# Altium schematic symbol library Schlib1.SchLib: 23 symbols
Pins are listed as number, name and electrical type; pins without a type are passive.

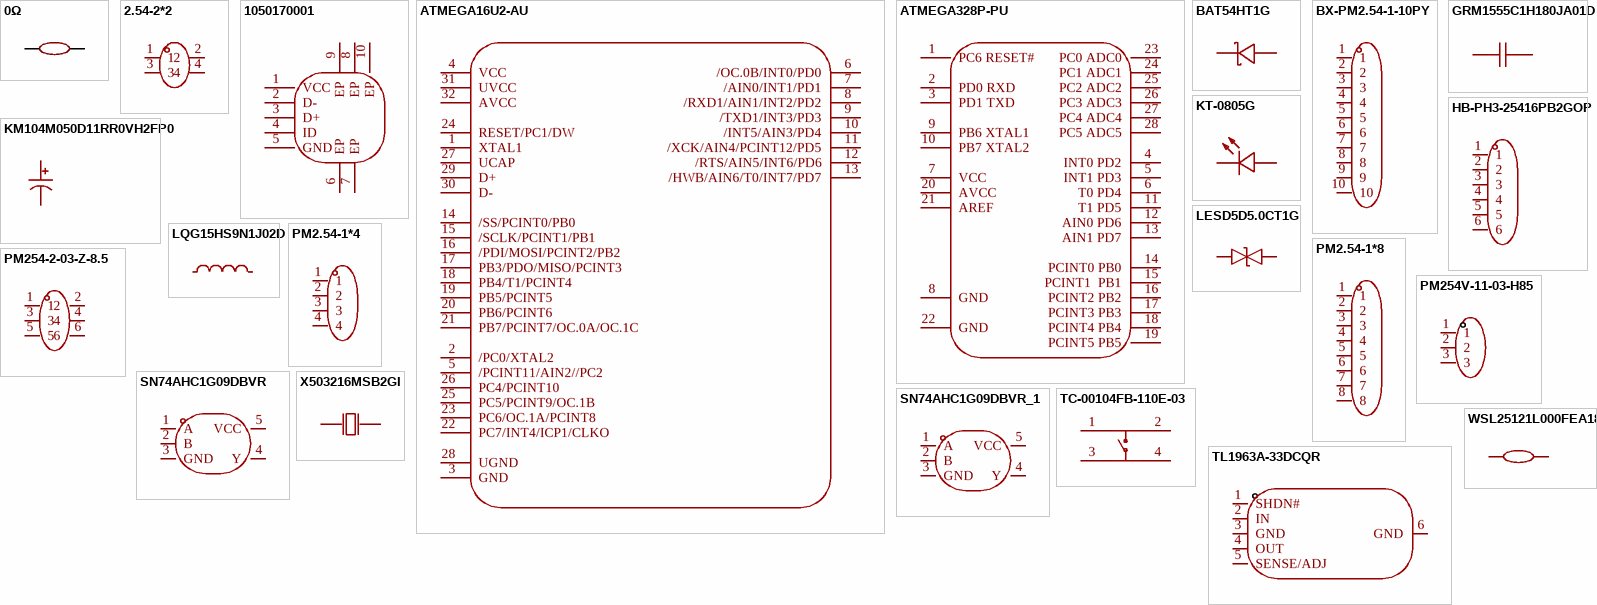
[diagram p0: symbols 0Ω to X503216MSB2GI]

## 0Ω
designator R1  (value not drawn)
Manufacturer: YAGEO(国巨); Manufacturer Part: RC0603FR-070RL; nameAlias: Value; Supplier: LCSC; Supplier Part: C100044; JLCPCB Part Class: Extended Part; spicePre: R; spiceSymbolName: RC0603FR-070RL
footprint R0402
pins: 1, 2

## 2.54-2*2
designator U?  (value not drawn)
Manufacturer: ZHOURI(洲日); Add into BOM: yes; Holes Structure: 2x2P; Pitch: 2.54mm; Circular Hole / Square Hole: Square Holes; Number of Holes: 4P; Current Rating (Max): 2.5A; Holes Direction: Top; Symbol: 2.54-2*2; Device: 2.54-2*2; LCSC Part Name: 间距:2.54mm 2x2P 直插; Supplier Part: C2977590; Manufacturer Part: 2.54-2*2; Supplier Footprint: 插件,P=2.54mm; JLCPCB Part Class: Extended Part; Datasheet: https://atta.szlcsc.com/upload/public/pdf/source/20220328/0DEB63D734370D90CA736158671615A0.pdf; Supplier: LCSC; Convert to PCB: yes; Row Spacing: 2.54mm; Mounting Type: Straight; Number of Rows: 双排; Voltage Rating (Max): -; Insulation Height: 8.5mm; Operating Temperature Range: -40℃~+105℃
footprint HDR-TH_4P-P2.54-V-F-R2-C2-S2.54
3D model HDR-TH_4P-P2.54-F-LI-2X2P
pins: 1, 2, 3, 4

## 1050170001
designator USB?  (value not drawn)
Manufacturer: MOLEX; Symbol: 105017-0001; Add into BOM: yes; Connector Type: Micro-B; Gender: Female; Number of Ports: 1; Number of Contacts: 5P; Device: 1050170001; LCSC Part Name: Micro-B 母 卧贴; Supplier Part: C136000; Manufacturer Part: 1050170001; Supplier Footprint: SMD; JLCPCB Part Class: Extended Part; Datasheet: https://atta.szlcsc.com/upload/public/pdf/source/20171113/C136000_15105610884381115465.pdf; Supplier: LCSC; Convert to PCB: yes; Standard: USB 2.0; Mounting Style: 卧贴; Current Rating - Power (Max): -; Operating Temperature Range: -30℃~+85℃
footprint MICRO-USB-SMD_105017-0001
3D model MICRO-USB-SMD_105017-0001
pins: 1 VCC, 2 D-, 3 D+, 4 ID, 5 GND, 6 EP, 7 EP, 8 EP, 9 EP, 10 EP

## ATMEGA16U2-AU
designator U?  (value not drawn)
Manufacturer: MICROCHIP(美国微芯); Add into BOM: yes; CPU Core: AVR; Program Storage Size: 16KB; RAM Size: 512Byte; GPIO Ports Number: 22; Operating Voltage Range: 2.7V~5.5V; CPU Maximum Speed: 16MHz; Program Memory Type: FLASH; Universal Serial Bus: 有; Peripheral/Function: WDT；PWM; Symbol: ATMEGA16U2-AU; Device: ATMEGA16U2-AU; LCSC Part Name: ATMEGA16U2-AU; Supplier Part: C59019; Manufacturer Part: ATMEGA16U2-AU; Supplier Footprint: TQFP-32(7x7); JLCPCB Part Class: Extended Part; Datasheet: https://atta.szlcsc.com/upload/public/pdf/source/20150921/1457707392275.pdf; Supplier: LCSC; Convert to PCB: yes; EEPROM: 512Byte; Operating Temperature Range: -40℃~+85℃; ADC (Bit): -; DAC (Bit): -; PWM (Bit): -; Internal Comparator: -; communication protocol: -; Watchdog: 有; Real-Time Clock: -; Infrared Data Association: -; Low-Voltage Detect: 有; CCP Capture/Compare: -; Secure Digital Input and Output: -; Direct Memory Access: -; Internal Oscillator: 有
footprint TQFP-32_L7.0-W7.0-P0.80-LS9.0-TL
3D model TQFP-32_L7.0-W7.0-H1.2-LS9.0-P0.80 (PCB3D Model)
pins: 1 XTAL1, 2 /PC0/XTAL2, 3 GND, 4 VCC, 5 /PCINT11/AIN2//PC2, 6 /OC.0B/INT0/PD0, 7 /AIN0/INT1/PD1, 8 /RXD1/AIN1/INT2/PD2, 9 /TXD1/INT3/PD3, 10 /INT5/AIN3/PD4, 11 /XCK/AIN4/PCINT12/PD5, 12 /RTS/AIN5/INT6/PD6, 13 /HWB/AIN6/T0/INT7/PD7, 14 /SS/PCINT0/PB0, 15 /SCLK/PCINT1/PB1, 16 /PDI/MOSI/PCINT2/PB2, 17 PB3/PDO/MISO/PCINT3, 18 PB4/T1/PCINT4, 19 PB5/PCINT5, 20 PB6/PCINT6, 21 PB7/PCINT7/OC.0A/OC.1C, 22 PC7/INT4/ICP1/CLKO, 23 PC6/OC.1A/PCINT8, 24 RESET/PC1/DW, 25 PC5/PCINT9/OC.1B, 26 PC4/PCINT10, 27 UCAP, 28 UGND, 29 D+, 30 D-, 31 UVCC, 32 AVCC

## ATMEGA328P-PU
designator U?  (value not drawn)
Manufacturer: MICROCHIP(美国微芯); Add into BOM: yes; CPU Core: AVR; Program Storage Size: 32KB; RAM Size: 2KB; GPIO Ports Number: 23; Operating Voltage Range: 1.8V~5.5V; CPU Maximum Speed: 20MHz; Program Memory Type: FLASH; EEPROM: 1KB; ADC (Bit): 10bit; Peripheral/Function: WDT；PWM; Watchdog: 有; Symbol: ATMEGA328P-PU; Device: ATMEGA328P-PU; LCSC Part Name: 基于AVR增强型RISC架构的低功耗CMOS 8位微控制器 MSL=1; Supplier Part: C33901; Manufacturer Part: ATMEGA328P-PU; Supplier Footprint: DIP-28-300mil; JLCPCB Part Class: Extended Part; Datasheet: https://atta.szlcsc.com/upload/public/pdf/source/20150124/1457707257819.pdf; Supplier: LCSC; Convert to PCB: yes; Operating Temperature Range: -40℃~+85℃; DAC (Bit): -; PWM (Bit): -; Universal Serial Bus: -; Internal Comparator: -; communication protocol: -; Real-Time Clock: -; Infrared Data Association: -; Low-Voltage Detect: 有; CCP Capture/Compare: -; Secure Digital Input and Output: -; Direct Memory Access: -; Internal Oscillator: 有
footprint DIP-28_L34.6-W7.3-P2.54-LS10.2-BL
3D model DIP-28_L34.6-W7.3-H4.6-P2.54-LS10.2-BL
pins: 1 PC6 RESET#, 2 PD0 RXD, 3 PD1 TXD, 4 INT0 PD2, 5 INT1 PD3, 6 T0 PD4, 7 VCC, 8 GND, 9 PB6 XTAL1, 10 PB7 XTAL2, 11 T1 PD5, 12 AIN0 PD6, 13 AIN1 PD7, 14 PCINT0 PB0, 15 PCINT1  PB1, 16 PCINT2 PB2, 17 PCINT3 PB3, 18 PCINT4 PB4, 19 PCINT5 PB5, 20 AVCC, 21 AREF, 22 GND, 23 PC0 ADC0, 24 PC1 ADC1, 25 PC2 ADC2, 26 PC3 ADC3, 27 PC4 ADC4, 28 PC5 ADC5

## BAT54HT1G
designator D?  (value not drawn)
Manufacturer: onsemi(安森美); Add into BOM: yes; Forward Voltage (Vf@If): 800mV@100mA; Reverse Voltage (Vr): 30V; Rectified Current: 200mA; Reverse Leakage Current (Ir): 2uA@25V; Symbol: BAT54HT1G; Device: BAT54HT1G; LCSC Part Name: 电压:30V 电流:200mA; Supplier Part: C21107; Manufacturer Part: BAT54HT1G; Supplier Footprint: SOD-323; JLCPCB Part Class: Extended Part; Datasheet: https://atta.szlcsc.com/upload/public/pdf/source/20131023/1457706657764.pdf; Supplier: LCSC; Convert to PCB: yes
footprint SOD-323_L1.8-W1.3-LS2.5-RD
3D model SOD-323_L1.8-W1.3-LS2.5-RD
footprint SOD-323_L1.8-W1.3-LS2.5-RD - duplicate1
pins: 1 K, 2 A

## BX-PM2.54-1-10PY
designator U?  (value not drawn)
Manufacturer: Bossie(博锡); Add into BOM: yes; Holes Structure: 1x10P; Pitch: 2.54mm; Circular Hole / Square Hole: Square Hole; Number of Holes: 10P; Voltage Rating (Max): 1kV; Holes Direction: Top; Soldering Temperature(Max): 260℃@5S; Symbol: BX-PM2.54-1-10PY; Device: BX-PM2.54-1-10PY; LCSC Part Name: 1x10P 间距:2.54mm 直插; Supplier Part: C18078132; Manufacturer Part: BX-PM2.54-1-10PY; Supplier Footprint: 插件,P=2.54mm; JLCPCB Part Class: Extended Part; Datasheet: https://atta.szlcsc.com/upload/public/pdf/source/20231017/732584F7F0B2D917FE86A7328410C345.pdf; Supplier: LCSC; Convert to PCB: yes; Row Spacing: -; Mounting Type: Direct Insert; Number of Rows: Single Row; Current Rating (Max): -; Insulation Height: 8.5mm; Contact Material: -; Contact Plating: Gold; Operating Temperature Range: -40℃~+105℃
footprint HDR-TH_10P-P2.54-V-F
3D model HDR-TH_10P-P2.54-F-LI-1X10P
pins: 1, 2, 3, 4, 5, 6, 7, 8, 9, 10

## GRM1555C1H180JA01D
designator C?, comment 18pF  (value not drawn)
Manufacturer: muRata(村田); Symbol: GRM1555C1H180JA01D; Add into BOM: yes; Tolerance: ±5%; Device: GRM1555C1H180JA01D; LCSC Part Name: 18pF ±5% 50V; Supplier Part: C33149; Manufacturer Part: GRM1555C1H180JA01D; Supplier Footprint: 0402; JLCPCB Part Class: Extended Part; Datasheet: https://atta.szlcsc.com/upload/public/pdf/source/20161108/1478586362936.pdf; Supplier: LCSC; Convert to PCB: yes; Value: 18pF
footprint C0402
3D model C0402_L1.0-W0.5-H0.5 (PCB3D Model)
pins: 1, 2

## HB-PH3-25416PB2GOP
designator U?  (value not drawn)
Manufacturer: HANBO(汉博); Add into BOM: yes; Pin Structure: 1x6P; Pitch: 2.54mm; Circluar Pins/Square Pins: Policy; Current Rating: 3A; Voltage Rating (Max): 250V; Symbol: HB-PH3-25416PB2GOP; Device: HB-PH3-25416PB2GOP; LCSC Part Name: 1x6P 间距:2.54mm 方针 直插; Supplier Part: C6332199; Manufacturer Part: HB-PH3-25416PB2GOP; Supplier Footprint: 插件,P=2.54mm; JLCPCB Part Class: Extended Part; Datasheet: https://atta.szlcsc.com/upload/public/pdf/source/20230803/F72D259687963761DF1B552F3BB84A31.pdf; Supplier: LCSC; Convert to PCB: yes; Row Spacing: 2.54mm; Mounting Type: Straight; Number of Rows: Single Row; Number of Pins: 6P; Length of Mating Pin: 6mm; Insulation Height: 2.54mm; Length of End Connection Pin: 3mm; Contact Material: Brass; Contact Plating: Gold; Operating Temperature: -40℃~+105℃; Color: Black
footprint HDR-TH_6P-P2.54-V-M
3D model HDR-TH_6P-P2.54-M-LI-1X6P
pins: 1, 2, 3, 4, 5, 6

## KM104M050D11RR0VH2FP0
designator C?, comment 100nF  (value not drawn)
Manufacturer: CX(承兴); Symbol: 0.1UF 50V; Device: KM104M050D11RR0VH2FP0; Add into BOM: yes; Tolerance: ±20%; Lifetime @ Temp: 1000hrs@105℃; LCSC Part Name: 100nF ±20% 50V; Supplier Part: C28061; Manufacturer Part: KM104M050D11RR0VH2FP0; Supplier Footprint: 插件,D5xL11mm; JLCPCB Part Class: Extended Part; Datasheet: https://atta.szlcsc.com/upload/public/pdf/source/20211027/06D6BA3719C264B639DC286D935D03EA.pdf; Supplier: LCSC; Convert to PCB: yes; Value: 100nF
footprint CAP-TH_BD5.0-P2.00-D0.8-FD
3D model CAP-TH_D5.0×H7.0×P2.0
pins: 1, 2

## KT-0805G
designator LED?  (value not drawn)
Manufacturer: KENTO; Symbol: 0805G (Green); Add into BOM: yes; Emitted Color: Emerald; Device: KT-0805G; LCSC Part Name: 0805 翠绿 高亮; Supplier Part: C2297; Manufacturer Part: KT-0805G; Supplier Footprint: 0805; JLCPCB Part Class: Basic Part; Datasheet: https://atta.szlcsc.com/upload/public/pdf/source/20170209/1486607340485.pdf; Supplier: LCSC; Convert to PCB: yes; Lamp Holder Type: -; Forward Voltage (VF): -; Power Dissipation: -; Forward Current: -; Dominant Wavelength: -; Peak Wavelength: -; Diode Configuration: -; Lens Color: -; Color Temperature: -; Luminous Intensity: -; Viewing Angle: -; Mounting Sytle: -; Operating Temperature: -
footprint LED0805-R-RD
3D model LED0805-RD
pins: 1 A, 2 K

## LESD5D5.0CT1G
designator D?  (value not drawn)
Manufacturer: LRC(乐山无线电); Add into BOM: yes; polarity: Bidirectional; Reverse Stand-Off Voltage (Vrwm): 5V; Maximum Clamping Voltage: 18.6V; Peak Pulse Current (Ipp): 9.4A; Breakdown Voltage: 5.6V; Type: ESD; Symbol: LESD5D5.0CT1G; Device: LESD5D5.0CT1G; LCSC Part Name: 双向ESD; Supplier Part: C383211; Manufacturer Part: LESD5D5.0CT1G; Supplier Footprint: SOD-523; JLCPCB Part Class: Extended Part; Datasheet: https://atta.szlcsc.com/upload/public/pdf/source/20190807/C383211_633DF4B4E2C161403226E5235FE33A1C.pdf; Supplier: LCSC; Convert to PCB: yes
footprint SOD-523_L1.2-W0.8-LS1.6-BI
3D model SOD-523_L1.2-W0.8-LS1.6-BI
pins: 1, 2

## LQG15HS9N1J02D
designator L?, comment 9.1nH  (value not drawn)
Manufacturer: muRata(村田); Symbol: LQG15HS9N1J02D; Add into BOM: yes; Tolerance: ±5%; Q @ Freq: 8@100MHz; Type: 叠层电感; Device: LQG15HS9N1J02D; LCSC Part Name: 9.1nH ±5%; Supplier Part: C162547; Manufacturer Part: LQG15HS9N1J02D; Supplier Footprint: 0402; JLCPCB Part Class: Extended Part; Datasheet: https://atta.szlcsc.com/upload/public/pdf/source/20180612/C185484_14F678484DDF036353DC67B6265A9221.pdf; Supplier: LCSC; Convert to PCB: yes; Value: 9.1nH; Saturation Current (Isat): -
footprint L0402
3D model L0402_L1.0-W0.5-H0.5_BEAD
pins: 1, 2

## PM2.54-1*4
designator H?  (value not drawn)
Manufacturer: ZHOURI(洲日); Add into BOM: yes; Holes Structure: 1x4P; Pitch: 2.54mm; Circular Hole / Square Hole: 方孔; Number of Holes: 4P; Current Rating (Max): 2.5A; Holes Direction: Top; Symbol: PM2.54-1*4; Device: PM2.54-1*4; LCSC Part Name: 间距:2.54mm 1x4P 直插; Supplier Part: C5116530; Manufacturer Part: PM2.54-1*4; Supplier Footprint: 插件,P=2.54mm; JLCPCB Part Class: Extended Part; Datasheet: https://atta.szlcsc.com/upload/public/pdf/source/20220729/3385E3C3A9122AF204A83235A2975C64.pdf; Supplier: LCSC; Convert to PCB: yes; Row Spacing: 2.54mm; Mounting Type: Straight; Number of Rows: Plugin; Insulation Height: 8.5mm; Operating Temperature Range: -40℃~+105℃
footprint HDR-TH_4P-P2.54-V-F
3D model HDR-TH_4P-P2.54-V-F
pins: 1, 2, 3, 4

## PM2.54-1*8
designator H?  (value not drawn)
Manufacturer: ZHOURI(洲日); Add into BOM: yes; Holes Structure: 1x8P; Pitch: 2.54mm; Circular Hole / Square Hole: 方孔; Number of Holes: 8P; Current Rating (Max): 2.5A; Holes Direction: Top; Symbol: PM2.54-1*8; Device: PM2.54-1*8; LCSC Part Name: 间距:2.54mm 1x8P 直插; Supplier Part: C5224027; Manufacturer Part: PM2.54-1*8; Supplier Footprint: 插件,P=2.54mm; JLCPCB Part Class: Extended Part; Datasheet: https://atta.szlcsc.com/upload/public/pdf/source/20221031/E5BAE727A502DC7C69CE947E807E2296.pdf; Supplier: LCSC; Convert to PCB: yes; Row Spacing: 2.54mm; Mounting Type: Straight; Number of Rows: Plugin; Insulation Height: 8.5mm; Operating Temperature Range: -40℃~+105℃
footprint HDR-TH_8P-P2.54-V-F
3D model HDR-TH_8P-P2.54-F-LI-1X8P
pins: 1, 2, 3, 4, 5, 6, 7, 8

## PM254-2-03-Z-8.5
designator U?  (value not drawn)
Manufacturer: HCTL(华灿天禄); Add into BOM: yes; Holes Structure: 2x3P; Pitch: 2.54mm; Circular Hole / Square Hole: Square Holes; Number of Holes: 6P; Current Rating (Max): 3A; Holes Direction: Top; Soldering Temperature(Max): 260℃@5S; Symbol: PM254-2-03-Z-8.5; Device: PM254-2-03-Z-8.5; LCSC Part Name: 2x3P 间距:2.54mm 直插; Supplier Part: C2897404; Manufacturer Part: PM254-2-03-Z-8.5; Supplier Footprint: 插件,P=2.54mm; JLCPCB Part Class: Extended Part; Datasheet: https://atta.szlcsc.com/upload/public/pdf/source/20230609/3D36CA2C1BFC9FD1C3F709AD9DFEB9C2.pdf; Supplier: LCSC; Convert to PCB: yes; Row Spacing: 2.54mm; Mounting Type: Straight; Number of Rows: 双排; Voltage Rating (Max): -; Insulation Height: 8.5mm; Contact Material: Copper Alloy; Operating Temperature Range: -40℃~+105℃
footprint HDR-TH_6P-P2.54-V-F-R2-C3-S2.54
3D model HDR-TH_6P-P2.54-F-LI-2X3P
pins: 1, 2, 3, 4, 5, 6

## PM254V-11-03-H85
designator H?  (value not drawn)
Manufacturer: XFCN(兴飞); Add into BOM: yes; Holes Structure: 1x3P; Pitch: 2.54mm; Number of Holes: 3P; Symbol: PM254V-11-03-H85; Device: PM254V-11-03-H85; LCSC Part Name: 间距:2.54mm 1x3P 直插; Supplier Part: C541850; Manufacturer Part: PM254V-11-03-H85; Supplier Footprint: 插件,P=2.54mm; JLCPCB Part Class: Extended Part; Datasheet: https://atta.szlcsc.com/upload/public/pdf/source/20200518/C541849_85853D71FC67C51915A806977A588FDA.pdf; Supplier: LCSC; Convert to PCB: yes; Row Spacing: -; Mounting Type: Straight; Number of Rows: Plugin; Insulation Height: -; Contact Material: Brass; Contact Plating: -
footprint HDR-TH_3P-P2.54-V-F
3D model HDR2.54-F-LI-1X3P
pins: 1, 2, 3

## SN74AHC1G09DBVR
designator U?  (value not drawn)
Manufacturer: TI(德州仪器); Add into BOM: yes; Logic Gate Type: 与门; Number of Channels: 1; Supply Voltage: 2V~5.5V; Quiescent Current (Max): 1uA; Sink Current: 8mA; High Level Range (VIH): 1.5V~3.85V; Low Level Range (VIL): 500mV~1.65V; Propagation Delay Time: 7.5ns@5V,50pF; Symbol: SN74AHC1G09DBVR; Device: SN74AHC1G09DBVR; LCSC Part Name: SN74AHC1G09DBVR; Supplier Part: C840099; Manufacturer Part: SN74AHC1G09DBVR; Supplier Footprint: SOT-23-5; JLCPCB Part Class: Extended Part; Datasheet: https://www.ti.com/cn/lit/gpn/sn74ahc1g09; Supplier: LCSC; Convert to PCB: yes; Source Current: -; Series: 74AHCSeries; Operating Temperature: -55℃~+125℃
footprint SOT-23-5_L2.9-W1.6-P0.95-LS2.8-BL
3D model SOT-23-5_L2.9-W1.6-P0.95-LS2.8-BL
pins: 1 A, 2 B, 3 GND, 4 Y, 5 VCC

## SN74AHC1G09DBVR_1
designator U?, comment SN74AHC1G09DBVR  (value not drawn)
Manufacturer: TI(德州仪器); Add into BOM: yes; Logic Gate Type: 与门; Number of Channels: 1; Supply Voltage: 2V~5.5V; Quiescent Current (Max): 1uA; Sink Current: 8mA; High Level Range (VIH): 1.5V~3.85V; Low Level Range (VIL): 500mV~1.65V; Propagation Delay Time: 7.5ns@5V,50pF; Symbol: SN74AHC1G09DBVR; Device: SN74AHC1G09DBVR; LCSC Part Name: SN74AHC1G09DBVR; Supplier Part: C840099; Manufacturer Part: SN74AHC1G09DBVR; Supplier Footprint: SOT-23-5; JLCPCB Part Class: Extended Part; Datasheet: https://www.ti.com/cn/lit/gpn/sn74ahc1g09; Supplier: LCSC; Convert to PCB: yes; Source Current: -; Series: 74AHCSeries; Operating Temperature: -55℃~+125℃
footprint SOT-23-5_L2.9-W1.6-P0.95-LS2.8-BL
3D model SOT-23-5_L2.9-W1.6-P0.95-LS2.8-BL
pins: 1 A, 2 B, 3 GND, 4 Y, 5 VCC

## TC-00104FB-110E-03
designator SW?  (value not drawn)
Manufacturer: HOOYA(皓宇电子); Add into BOM: yes; Contact Current: 50mA; Voltage Rating (DC): 12V; Symbol: TC-00104FB-110E-03; Device: TC-00104FB-110E-03; LCSC Part Name: TC-00104FB-110E-03; Supplier Part: C7542981; Manufacturer Part: TC-00104FB-110E-03; Supplier Footprint: DIP; JLCPCB Part Class: Extended Part; Datasheet: https://atta.szlcsc.com/upload/public/pdf/source/20240226/4796A29EA251D564C3D729191F5C4338.pdf; Supplier: LCSC; Convert to PCB: yes
footprint SW-TH_4P-L6.0-W6.0-P4.50-LS6.5
3D model SW-TH_4P-L6.0-W6.0-H5.0-LS6.5-P4.50
pins: 1, 2, 3, 4

## TL1963A-33DCQR
designator U?  (value not drawn)
Manufacturer: TI(德州仪器); Add into BOM: yes; Output Type: Fixed; Maximum Input Voltage: 20V; Output Voltage: 3.3V; Output Current: 1.5A; Power Supply Rejection Ratio (PSRR): 63dB@(120Hz); Dropout Voltage: 550mV@(1.5A); standby current: 1mA; Output Polarity: Positive electrode; Number of Outputs: 1; Symbol: TL1963A-33DCQR; Device: TL1963A-33DCQR; LCSC Part Name: 具有反向电流和反向电压保护功能的 1.5A、20V 超低压降稳压器; Supplier Part: C2873060; Manufacturer Part: TL1963A-33DCQR; Supplier Footprint: SOT-223-6; JLCPCB Part Class: Extended Part; Datasheet: https://www.ti.com/cn/lit/gpn/tl1963a; Supplier: LCSC; Convert to PCB: yes; Feature: 防静电保护；低ESR；Thermal Protection(TSD)；Overcurrent Protection(OCP)；带使能; Operating Temperature: -40℃~+125℃
footprint SOT-223-6_L6.5-W3.5-P1.27-LS7.0-BR
3D model SOT-223-6_L6.5-W3.5-P1.27-LS7.0-BR
pins: 1 SHDN#, 2 IN, 3 GND, 4 OUT, 5 SENSE/ADJ, 6 GND

## WSL25121L000FEA18
designator R?, comment 1mΩ  (value not drawn)
Manufacturer: VISHAY(威世); Symbol: WSL25121L000FEA18; Add into BOM: yes; Tolerance: ±1%; Temperature Coefficient: ±275ppm/℃; Mounting Sytle: Surface Mount; Device: WSL25121L000FEA18; LCSC Part Name: 1mΩ ±1% 2W; Supplier Part: C149567; Manufacturer Part: WSL25121L000FEA18; Supplier Footprint: 2512; JLCPCB Part Class: Extended Part; Datasheet: https://atta.szlcsc.com/upload/public/pdf/source/20180730/C149567_AEEE3780A8EE98747C02CEA4CDC81D3F.pdf; Supplier: LCSC; Convert to PCB: yes; Type: Current Sensing Resistors; Value: 1mΩ; Rated Output Voltage: -; Rated Current: -
footprint R0402
pins: 1, 2

## X503216MSB2GI
designator X?, comment 16MHz  (value not drawn)
Manufacturer: YXC(扬兴晶振); Symbol: X503216MSB2GI; Add into BOM: yes; Normal temperature Frequency Tolerance: ±10ppm; Frequency Stability: ±20ppm; Device: X503216MSB2GI; LCSC Part Name: 16MHz ±10ppm 20pF; Supplier Part: C112572; Manufacturer Part: X503216MSB2GI; Supplier Footprint: SMD5032; JLCPCB Part Class: Extended Part; Datasheet: https://atta.szlcsc.com/upload/public/pdf/source/20240329/44922B0AF7B60E58E9B66993B6077277.pdf; Supplier: LCSC; Convert to PCB: yes; Type: Surface Mount Crystal; Value: 16MHz; Operating Temperature: -40℃~+85℃
footprint OSC-SMD_L5.0-W3.2
3D model OSC-SMD_L5.0-W3.2-H1.4
pins: 1 OSC1, 2 OSC2